# Altium integrated library OKI-78SR-5_1.5-W36H-C.IntLib: 1 symbol
Pins are listed as number, name and electrical type; pins without a type are passive.

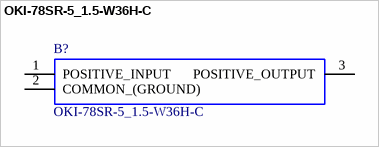
[diagram p0: symbol OKI-78SR-5_1.5-W36H-C]

## OKI-78SR-5_1.5-W36H-C
designator B?
Switching Regulator 7-36Vin 5Vo 1.5A Non-Isolated DC-DC Converter, 5V dc Output, 1.5A; Manufacturer_Name: Murata Electronics; Manufacturer_Part_Number: OKI-78SR-5/1.5-W36H-C; Mouser Part Number: 580-OKI78SR51.5W36HC; Datasheet Link: https://componentsearchengine.com/Datasheets/1/OKI-78SR-5_1.5-W36H-C.pdf
footprint OKI-78SR-HORIZONTAL
pins: 1 POSITIVE_INPUT, 2 COMMON_(GROUND), 3 POSITIVE_OUTPUT